# Altium schematic symbol library USB Connectors.SchLib: 2 symbols
Pins are listed as number, name and electrical type; pins without a type are passive.

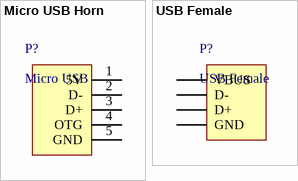
[diagram p0: symbols Micro USB Horn to USB Female]

## Micro USB Horn
designator P?, comment Micro USB
MIcro USB Connector Horn
pins: 1 5V, 2 D-, 3 D+, 4 OTG, 5 GND

## USB Female
designator P?
pins: 1 VBUS, 2 D-, 3 D+, 4 GND